# EAGLE library part THAT2181 (library THAT2181)
THAT 2181 Trimmable Voltage Controlled Amplifier (SIP) Datasheet: http://www.thatcorp.com/datashts/THAT_2181-Series_Datasheet.pdf
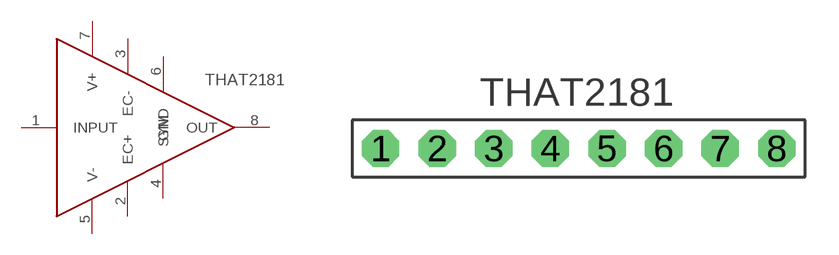
[diagram p0: symbol with the pads of THAT2181; footprint THAT2181]

Designator prefix -

## THAT2181  [THAT2181]
1  INPUT  in
2  EC+
3  EC-
4  SYM
5  V-  pwr
6  GND
7  V+  pwr
8  OUT  out

## Footprint THAT2181 (pad centres in mm)
THAT 2181 Trimmable Voltage Controlled Amplifier (SIP) Datasheet: http://www.thatcorp.com/datashts/THAT_2181-Series_Datasheet.pdf
drill 0.8 pad 1.676 octagon: 1 -8.985,0; 2 -6.445,0; 3 -3.905,0; 4 -1.365,0; 5 1.175,0; 6 3.715,0; 7 6.255,0; 8 8.795,0